# Altium schematic symbol library FC-135 32.7680KA-A3.SchLib: 1 symbol
Pins are listed as number, name and electrical type; pins without a type are passive.

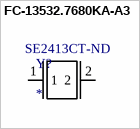
[diagram p0: symbol FC-13532.7680KA-A3]

## FC-13532.7680KA-A3
designator Y?  Supplier Part Number 1: SE2413CT-ND
CRYSTAL 32.7680KHZ 12.5PF SMD; Manufacturer 1: Epson; Manufacturer Part Number 1: FC-13532.7680KA-A3; Frequency: 32.768kHz; Frequency Tolerance: 20ppm; ESR (Equivalent Series Resistance): 70kR; Supplier 1: Digi-Key; Stock 1: 0; RoHS: Yes; Mount: Surface Mount; Case/Package: SMD/SMT; Number of Pins: 2; Weight: 0.000564oz; Min Operating Temperature: -40°C; Max Operating Temperature: 85°C; Package Quantity: 1; Load Capacitance: 12.5pF; Packaging: Tape and Reel; Tolerance: 20ppm; Termination: SMD/SMT; Frequency Stability: 20ppm; Length: 3.2mm; Height: 0.035inch; Width: 0.059inch; Depth: 1.5mm; Lead Free: Contains Lead; ComponentLink1URL: https://datasheet.ciiva.com/15116/getdatasheetpartid-112713-15116373.pdf?src-supplier=Verical; ComponentLink1Description: https://datasheet.ciiva.com/15116/getdatasheetpartid-112713-15116373.pdf?src-supplier=Verical; ComponentLink2URL: https://datasheet.ciiva.com/26949/getdatasheetpartid-788185-26949226.pdf?src-supplier=Verical; ComponentLink2Description: https://datasheet.ciiva.com/26949/getdatasheetpartid-788185-26949226.pdf?src-supplier=Verical
footprint FC-135 32.7680KA-A3
pins: 1, 2